# Altium footprint library SW_MHSS1104.PcbLib: 1 footprints
Each footprint in its own frame and in the unit in brackets; x right, y up, seen from the top. Pads: shape width x height; smd on the part's side, far side on the other; paste and mask are expansions set on the pad; w line width, h text height; cw(c..) or ccw(c..) is an arc to the next point about the centre after c.
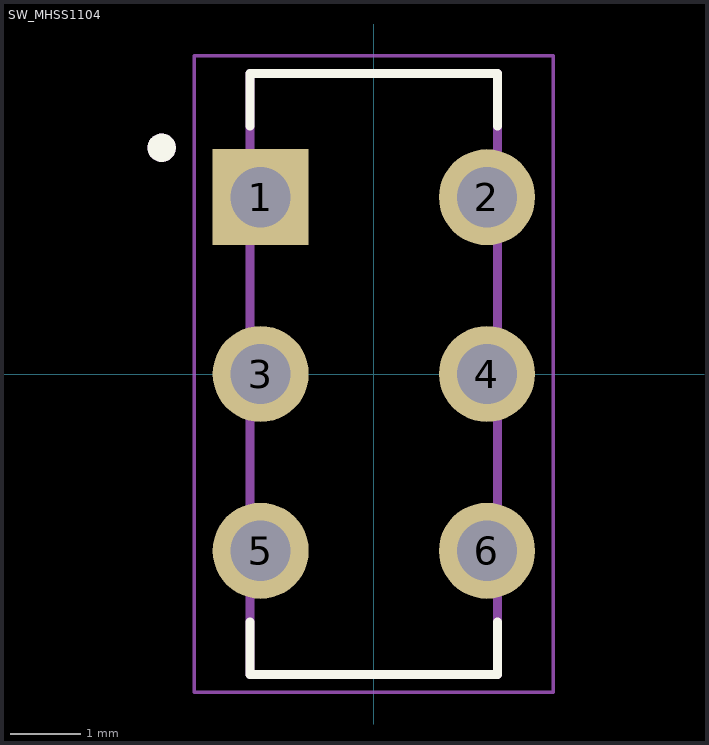
[diagram p0: the footprint, top view; thin cyan lines are the x and y axes]

## SW_MHSS1104 [mm]
pads (6):
  rect 1.358x1.358 hole 0.85: 1(-1.6,2.5)
  round 1.358 hole 0.85: 2(1.6,2.5) 3(-1.6,0) 4(1.6,0) 5(-1.6,-2.5) 6(1.6,-2.5)
Top Overlay:
  circle w0.2: c-3,3.2 r0.1
  lines w0.127: -1.75,-3.51 -1.75,-4.25 1.75,-4.25 1.75,-3.51 ; -1.75,3.51 -1.75,4.25 1.75,4.25 1.75,3.51
Mechanical 13:
  circle w0.2: c-3,3.2 r0.1
  lines w0.127: -1.75,-4.25 -1.75,4.25 1.75,4.25 1.75,-4.25 -1.75,-4.25
Mechanical 15:
  lines w0.05: -2.54,-4.5 2.54,-4.5 2.54,4.5 -2.54,4.5 -2.54,-4.5
3D body "step_temp.STEP": height 5.5, standoff -3, extent -1.75,-4.25 1.75,4.25